# Altium schematic symbol library CPU_STM_080816.SchLib: 227 symbols (part 1 of 5)
Pins are listed as number, name and electrical type; pins without a type are passive.

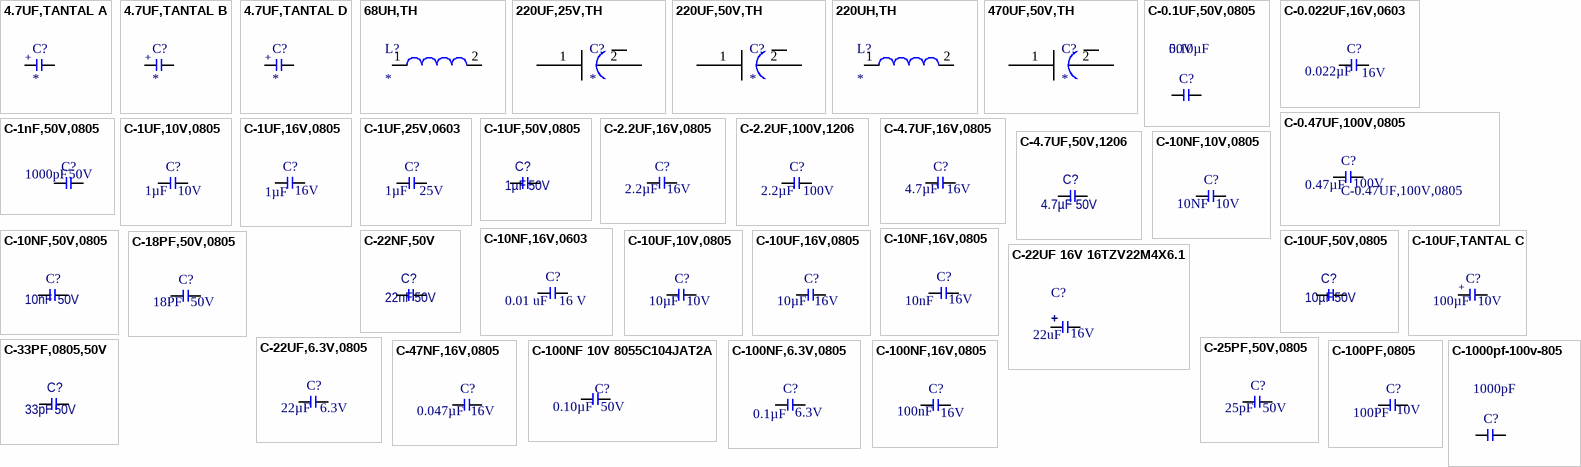
[diagram p0: symbols 4.7UF,TANTAL A to C-1000pf-100v-805]

## 4.7UF,TANTAL A
designator C?
footprint Case_A
pins: 1, 2
text: +

## 4.7UF,TANTAL B
designator C?
footprint Case_B
pins: 1, 2
text: +

## 4.7UF,TANTAL D
designator C?
footprint Case_D
pins: 1, 2
text: +

## 68UH,TH
designator L?
footprint TH
pins: 1, 2

## 220UF,25V,TH
designator C?
Manufacturer: Panasonic; Manufacturer Part Number: EEU-FC1E221B; Capacitance: 220 uF; Tolerance: 20 %; Type: Radial Lead Type; Voltage Rating DC: 25 V; ESR: 117 mOhms; Case Diameter: 8 mm; Case Length: 11 mm; Load Life: 2000 h; Ripple Current: 555 mA; Supplier 1: Mouser; RoHS: RoHS Compliant; Category: Aluminium Electrolytic Capacitors - Leaded; Stock 1: 1648; Pricing 1: 1=0.471, 10=0.231, 100=0.149, 1000=0.126, 2000=0.112, 10000=0.102, 25000=0.099, 50000=0.097 (USD); Dimensions: 8 mm Dia. x 11 mm L; Packaging: Ammo Pack; Product: High Temp Electrolytic Capacitors; Series: FC; Termination Style: Radial; Brand: Panasonic; Lead Spacing: 5 mm; Maximum Operating Temperature: + 105 C; Standard Pack Qty: 1000; RoHS - Mouser: Y; Minimum Order Quantity: 1; Reeling: False; ComponentLink1URL: http://www.mouser.com/ds/2/315/ABA0000CE22-68457.pdf; ComponentLink1Description: http://www.mouser.com/ds/2/315/ABA0000CE22-68457.pdf; Supplier Part Number 1: 667-EEU-FC1E221B
footprint TH
pins: 1, 2

## 220UF,50V,TH
designator C?
footprint TH
pins: 1, 2

## 220UH,TH
designator L?
footprint TH
pins: 1, 2

## 470UF,50V,TH
designator C?
footprint TH
pins: 1, 2

## C-0.1UF,50V,0805
designator C?, comment Voltage - Rated: 50V  Capacitance: 0.10µF  (hidden comment: C0805C104M5RACTU)
CAP CER 0.1UF 50V X7R 0805; Manufacturer: Kemet; Tolerance: ±20%; Supplier 1: Digi-Key; Manufacturer Part Number: C0805C104M5RACTU; RoHS: RoHS Compliant; Category: Capacitors; Stock 1: 375867; Pricing 1: 1=0.1, 10=0.05, 50=0.0274, 100=0.0231, 250=0.01892, 500=0.01618, 1000=0.0126 (USD); Packaging: Cut Tape (CT); Temperature Coefficient: X7R; Mounting Type: Surface Mount, MLCC; Operating Temperature: -55°C ~ 125°C; Applications: General Purpose; Ratings: -; Package / Case: 0805 (2012 Metric); Size / Dimension: 0.079" L x 0.049" W (2.00mm x 1.25mm); Height - Seated (Max): -; Thickness (Max): 0.035" (0.88mm); Lead Spacing: -; Features: Low ESL; Lead Style: -; ComponentLink1URL: http://www.kemet.com/docfinder?Partnumber=C0805C104M5RACTU; ComponentLink1Description: http://www.kemet.com/docfinder?Partnumber=C0805C104M5RACTU; Supplier Part Number 1: 399-1169-1-ND
footprint C0805
pins: 1, 2

## C-0.022UF,16V,0603
designator C?, comment Capacitance: 0.022µF  Voltage - Rated: 16V  (hidden comment: 0.022UF,16V,0603)
CAP CER 0.022UF 16V X7R 0603; Manufacturer: Murata Electronics North America; Manufacturer Part Number: GRM188R71C223KA01D; Tolerance: ±10%; Supplier 1: Digi-Key; RoHS: RoHS Compliant; Category: Capacitors; Stock 1: 96403; Pricing 1: 1=0.1, 10=0.046, 50=0.0248, 100=0.0209, 250=0.01712, 500=0.01464, 1000=0.0114 (USD); Temperature Coefficient: X7R; Mounting Type: Surface Mount, MLCC; Operating Temperature: -55°C ~ 125°C; Applications: General Purpose; Ratings: -; Package / Case: 0603 (1608 Metric); Size / Dimension: 0.063" L x 0.031" W (1.60mm x 0.80mm); Height - Seated (Max): -; Thickness (Max): 0.035" (0.90mm); Lead Spacing: -; Features: -; Lead Style: -; ComponentLink1URL: http://www.murata.com/~/media/webrenewal/support/library/catalog/products/capacitor/mlcc/c02e.pdf; ComponentLink1Description: http://www.murata.com/~/media/webrenewal/support/library/catalog/products/capacitor/mlcc/c02e.pdf; Supplier Part Number 1: 490-1527-1-ND; Packaging: Cut Tape (CT)
footprint C0603
pins: 1, 2

## C-0.47UF,100V,0805
designator C?  Capacitance: 0.47µF  Voltage - Rated: 100V
Multilayer Ceramic Capacitors MLCC - SMD/SMT 0805 0.47uF 100volts X7R 10%; Manufacturer: Murata Electronics North America; Manufacturer Part Number: GRM21BR72A474KA73L; Supplier 1: Digi-Key; RoHS: RoHS Compliant; Category: Capacitors; Stock 1: 78887; Pricing 1: 1=0.58, 10=0.553, 50=0.33, 100=0.2681, 250=0.22276, 500=0.20212, 1000=0.18563 (USD); Packaging: Cut Tape (CT); Tolerance: ±10%; Temperature Coefficient: X7R; Mounting Type: Surface Mount, MLCC; Operating Temperature: -55°C ~ 125°C; Applications: General Purpose; Ratings: -; Package / Case: 0805 (2012 Metric); Size / Dimension: 0.079" L x 0.049" W (2.00mm x 1.25mm); Height - Seated (Max): -; Thickness (Max): 0.053" (1.35mm); Lead Spacing: -; Features: -; Lead Style: -; ComponentLink1URL: http://www.murata.com/~/media/webrenewal/support/library/catalog/products/capacitor/mlcc/c02e.pdf; ComponentLink1Description: http://www.murata.com/~/media/webrenewal/support/library/catalog/products/capacitor/mlcc/c02e.pdf; Supplier Part Number 1: 490-3326-1-ND
footprint C0805
pins: 1, 2

## C-1nF,50V,0805
designator C?, comment Voltage - Rated: 50V  Capacitance: 1000pF  (hidden comment: C0805C102K5RAC7411)
CAP CER 1000PF 50V X7R 0805; Manufacturer: Kemet; Tolerance: ±10%; Supplier 1: Digi-Key; Manufacturer Part Number: C0805C102K5RAC7411; RoHS: RoHS Compliant; Category: Capacitors; Stock 1: 60000; Pricing 1: 15000=0.0062, 30000=0.00589, 75000=0.00527, 105000=0.00426 (USD); Packaging: Tape & Reel (TR); Temperature Coefficient: X7R; Mounting Type: Surface Mount, MLCC; Operating Temperature: -55°C ~ 125°C; Applications: General Purpose; Ratings: -; Package / Case: 0805 (2012 Metric); Size / Dimension: 0.079" L x 0.049" W (2.00mm x 1.25mm); Height - Seated (Max): -; Thickness (Max): 0.035" (0.88mm); Lead Spacing: -; Features: Low ESL; Lead Style: -; ComponentLink1URL: http://www.kemet.com/docfinder?Partnumber=C0805C102K5RAC7411; ComponentLink1Description: http://www.kemet.com/docfinder?Partnumber=C0805C102K5RAC7411; Supplier Part Number 1: 399-7361-2-ND
footprint C0805
pins: 1, 2

## C-1UF,10V,0805
designator C?, comment Voltage - Rated: 10V  (hidden comment: 1µF)
AVX - 0805ZC105JAT2A - CAP, MLCC, X7R, 1UF, 10V, 0805; Manufacturer: AVX Corporation; Tolerance: ±5%; Supplier 1: Digi-Key; Manufacturer Part Number: 0805ZC105JAT2A; RoHS: RoHS Compliant; Category: Capacitors; Stock 1: 23098; Pricing 1: 1=0.68, 10=0.501, 25=0.4292, 50=0.4004, 100=0.3432, 250=0.3146, 500=0.2717, 1000=0.2288 (USD); Packaging: Cut Tape (CT); Temperature Coefficient: X7R; Mounting Type: Surface Mount, MLCC; Operating Temperature: -55°C ~ 125°C; Applications: General Purpose; Ratings: -; Package / Case: 0805 (2012 Metric); Size / Dimension: 0.079" L x 0.049" W (2.01mm x 1.25mm); Height - Seated (Max): -; Thickness (Max): 0.055" (1.40mm); Lead Spacing: -; Features: -; Lead Style: -; ComponentLink1URL: http://datasheets.avx.com/X7RDielectric.pdf; ComponentLink1Description: http://datasheets.avx.com/X7RDielectric.pdf; Supplier Part Number 1: 478-6224-1-ND; Capacitance: 1µF
footprint C0805
pins: 1, 2

## C-1UF,16V,0805
designator C?, comment Voltage - Rated: 16V  (hidden comment: 1µF)
AVX - 0805YC105KAT2A - CAP, MLCC, X7R, 1UF, 16V, 0805; Manufacturer: AVX Corporation; Tolerance: ±10%; Supplier 1: Digi-Key; Manufacturer Part Number: 0805YC105KAT2A; RoHS: RoHS Compliant; Category: Capacitors; Stock 1: 76930; Pricing 1: 1=0.19, 10=0.132, 25=0.0964, 50=0.075, 100=0.0622, 250=0.05148, 500=0.04362, 1000=0.03611 (USD); Packaging: Cut Tape (CT); Temperature Coefficient: X7R; Mounting Type: Surface Mount, MLCC; Operating Temperature: -55°C ~ 125°C; Applications: General Purpose; Ratings: -; Package / Case: 0805 (2012 Metric); Size / Dimension: 0.079" L x 0.049" W (2.01mm x 1.25mm); Height - Seated (Max): -; Thickness (Max): 0.055" (1.40mm); Lead Spacing: -; Features: -; Lead Style: -; ComponentLink1URL: http://datasheets.avx.com/X7RDielectric.pdf; ComponentLink1Description: http://datasheets.avx.com/X7RDielectric.pdf; Supplier Part Number 1: 478-5034-1-ND; Capacitance: 1µF
footprint C0805
pins: 1, 2

## C-1UF,25V,0603
designator C?  Capacitance: 1µF  Voltage - Rated: 25V  (hidden comment: C-1UF,25V,0603)
Multilayer Ceramic Capacitors MLCC - SMD/SMT 0603 1.0uF 25volts X7R 10%; Manufacturer: Murata Electronics North America; Manufacturer Part Number: GRM188R71E105KA12D; Supplier 1: Digi-Key; RoHS: RoHS Compliant; Category: Capacitors; Stock 1: 274086; Pricing 1: 1=0.24, 10=0.165, 50=0.1, 100=0.084, 250=0.068, 500=0.06, 1000=0.051 (USD); Packaging: Cut Tape (CT); Tolerance: ±10%; Temperature Coefficient: X7R; Mounting Type: Surface Mount, MLCC; Operating Temperature: -55°C ~ 125°C; Applications: General Purpose; Ratings: -; Package / Case: 0603 (1608 Metric); Size / Dimension: 0.063" L x 0.031" W (1.60mm x 0.80mm); Height - Seated (Max): -; Thickness (Max): 0.035" (0.90mm); Lead Spacing: -; Features: -; Lead Style: -; ComponentLink1URL: http://www.murata.com/~/media/webrenewal/support/library/catalog/products/capacitor/mlcc/c02e.pdf; ComponentLink1Description: http://www.murata.com/~/media/webrenewal/support/library/catalog/products/capacitor/mlcc/c02e.pdf; Supplier Part Number 1: 490-5307-1-ND
footprint 0603 (0603_CC)
pins: 1, 2

## C-1UF,50V,0805
designator C?, comment Capacitance: 1µF  Voltage - Rated: 50V  (hidden comment: 1UF 50V X7R)
CAP CER 1UF 50V X7R 0805; Manufacturer: Samsung Electro-Mechanics America, Inc.; Manufacturer Part Number: CL21B105KBFNNNE; Tolerance: ±10%; Supplier 1: Digi-Key; RoHS: RoHS Compliant; Category: Capacitors; Stock 1: 162738; Pricing 1: 1=0.21, 10=0.143, 25=0.104, 50=0.0866, 100=0.0727, 500=0.05194, 1000=0.04414 (USD); Packaging: Digi-Reel®; Temperature Coefficient: X7R; Mounting Type: Surface Mount, MLCC; Operating Temperature: -55°C ~ 125°C; Applications: General Purpose; Ratings: -; Package / Case: 0805 (2012 Metric); Size / Dimension: 0.079" L x 0.049" W (2.00mm x 1.25mm); Height - Seated (Max): -; Thickness (Max): 0.053" (1.35mm); Lead Spacing: -; Features: -; Lead Style: -; ComponentLink1URL: http://www.samsungsem.com/kr/support/product-search/mlcc/CL21B105KBFNNNE.jsp; ComponentLink1Description: http://www.samsungsem.com/kr/support/product-search/mlcc/CL21B105KBFNNNE.jsp; Supplier Part Number 1: 1276-1029-6-ND
footprint C0805
pins: 1, 2

## C-2.2UF,16V,0805
designator C?, comment Voltage - Rated: 16V  (hidden comment: 2.2µF)
KEMET - C0805C225K4RACTU - CAP, MLCC, X7R, 2.2UF, 16V, 0805; Tolerance: ±10%; Supplier 1: Digi-Key; Manufacturer: Kemet; Manufacturer Part Number: C0805C225K4RACTU; RoHS: RoHS Compliant; Category: Capacitors; Stock 1: 60102; Pricing 1: 1=0.36, 10=0.315, 50=0.1912, 100=0.1575, 250=0.126, 500=0.11476, 1000=0.1035 (USD); Packaging: Cut Tape (CT); Temperature Coefficient: X7R; Mounting Type: Surface Mount, MLCC; Operating Temperature: -55°C ~ 125°C; Applications: General Purpose; Ratings: -; Package / Case: 0805 (2012 Metric); Size / Dimension: 0.079" L x 0.049" W (2.00mm x 1.25mm); Height - Seated (Max): -; Thickness (Max): 0.055" (1.40mm); Lead Spacing: -; Features: Low ESL; Lead Style: -; ComponentLink1URL: http://www.kemet.com/docfinder?Partnumber=C0805C225K4RACTU; ComponentLink1Description: http://www.kemet.com/docfinder?Partnumber=C0805C225K4RACTU; Supplier Part Number 1: 399-3523-1-ND; Capacitance: 2.2µF
footprint C0805
pins: 1, 2

## C-2.2UF,100V,1206
designator C?, comment Voltage - Rated: 100V  (hidden comment: 2.2µF)
Multilayer Ceramic Capacitors MLCC - SMD/SMT 1210 2.2uF 100volts X7R 10%; Manufacturer: Murata Electronics North America; Manufacturer Part Number: GRM32ER72A225KA35L; Supplier 1: Digi-Key; RoHS: RoHS Compliant; Category: Capacitors; Stock 1: 228411; Pricing 1: 1=0.7, 10=0.67, 50=0.4, 100=0.325, 250=0.27, 500=0.245 (USD); Packaging: Cut Tape (CT); Tolerance: ±10%; Temperature Coefficient: X7R; Mounting Type: Surface Mount, MLCC; Operating Temperature: -55°C ~ 125°C; Applications: General Purpose; Ratings: -; Package / Case: 1210 (3225 Metric); Size / Dimension: 0.126" L x 0.098" W (3.20mm x 2.50mm); Height - Seated (Max): -; Thickness (Max): 0.106" (2.70mm); Lead Spacing: -; Features: -; Lead Style: -; ComponentLink1URL: http://www.murata.com/~/media/webrenewal/support/library/catalog/products/capacitor/mlcc/c02e.pdf; ComponentLink1Description: http://www.murata.com/~/media/webrenewal/support/library/catalog/products/capacitor/mlcc/c02e.pdf; Supplier Part Number 1: 490-3385-1-ND; Capacitance: 2.2µF
footprint C1206
pins: 1, 2

## C-4.7UF,16V,0805
designator C?, comment Voltage - Rated: 16V  (hidden comment: 4.7µF)
AVX - 0805YC475KAT2A - CAP, MLCC, X7R, 4.7UF, 16V, 0805; Manufacturer: AVX Corporation; Tolerance: ±10%; Supplier 1: Digi-Key; Manufacturer Part Number: 0805YC475KAT2A; RoHS: RoHS Compliant; Category: Capacitors; Stock 1: 16611; Pricing 1: 1=0.78, 10=0.578, 25=0.4952, 50=0.462, 100=0.396, 250=0.363, 500=0.3135, 1000=0.264 (USD); Packaging: Cut Tape (CT); Temperature Coefficient: X7R; Mounting Type: Surface Mount, MLCC; Operating Temperature: -55°C ~ 125°C; Applications: General Purpose; Ratings: -; Package / Case: 0805 (2012 Metric); Size / Dimension: 0.079" L x 0.049" W (2.01mm x 1.25mm); Height - Seated (Max): -; Thickness (Max): 0.060" (1.52mm); Lead Spacing: -; Features: -; Lead Style: -; ComponentLink1URL: http://datasheets.avx.com/X7RDielectric.pdf; ComponentLink1Description: http://datasheets.avx.com/X7RDielectric.pdf; Supplier Part Number 1: 478-5722-1-ND; Capacitance: 4.7µF
footprint C0805
pins: 1, 2

## C-4.7UF,50V,1206
designator C?, comment Capacitance: 4.7µF  Voltage - Rated: 50V  (hidden comment: 4.7UF 50V X7R)
CAP CER 4.7UF 50V X7R 1206; Manufacturer: Samsung Electro-Mechanics America, Inc.; Manufacturer Part Number: CL31B475KBHNNNE; Tolerance: ±10%; Supplier 1: Digi-Key; RoHS: RoHS Compliant; Category: Capacitors; Stock 1: 128633; Pricing 1: 1=0.34, 10=0.28, 25=0.1928, 50=0.1576, 100=0.1401, 500=0.0928, 1000=0.0823 (USD); Packaging: Digi-Reel®; Temperature Coefficient: X7R; Mounting Type: Surface Mount, MLCC; Operating Temperature: -55°C ~ 125°C; Applications: General Purpose; Ratings: -; Package / Case: 1206 (3216 Metric); Size / Dimension: 0.126" L x 0.063" W (3.20mm x 1.60mm); Height - Seated (Max): -; Thickness (Max): 0.071" (1.80mm); Lead Spacing: -; Features: -; Lead Style: -; ComponentLink1URL: http://www.samsungsem.com/kr/support/product-search/mlcc/CL31B475KBHNNNE.jsp; ComponentLink1Description: http://www.samsungsem.com/kr/support/product-search/mlcc/CL31B475KBHNNNE.jsp; Supplier Part Number 1: 1276-2789-6-ND
footprint C1206
pins: 1, 2

## C-10NF,10V,0805
designator C?, comment voltage_rating_dc: 10V  (hidden comment: 10NF)
MULTICOMP - MCSH21B103K100CT - CAP, MLCC, X7R, 10NF, 10V, 0805; capacitance_tolerance: ±10%; Manufacturer: MULTICOMP; Manufacturer Part Number: MCSH21B103K100CT; RoHS: YES; ComponentLink1URL: http://www.farnell.com/datasheets/1825494.pdf; ComponentLink1Description: http://www.farnell.com/datasheets/1825494.pdf; Supplier 1: Octopart; Stock 1: 5085; Pricing 1: 100=0.02900, 500=0.01700, 1000=0.01200 (SGD); reach_svhc_compliance: No SVHC; rohs_status: Compliant; packaging: Cut Tape (CT); dielectric_characteristic: X7R; Octopart Url: http://octopart.com/mcsh21b103k100ct-multicomp-46923996; Seller Landing  Url: https://octopart-clicks.com/click/track?country=TR&ak=8157f166&sig=0832e74&sid=11744&ppid=46923996&vpid=132475739&ct=offers; OctopartID: 0696cd50232cd951; ComponentLink2URL: http://datasheet.octopart.com/MCSH21B103K100CT-Multicomp-datasheet-26590457.pdf; ComponentLink2Description: http://datasheet.octopart.com/MCSH21B103K100CT-Multicomp-datasheet-26590457.pdf; ComponentLink3URL: http://datasheet.octopart.com/MCSH21B103K100CT-Multicomp-datasheet-12469387.pdf; ComponentLink3Description: http://datasheet.octopart.com/MCSH21B103K100CT-Multicomp-datasheet-12469387.pdf; ComponentLink4URL: http://datasheet.octopart.com/MCSH21B103K100CT-Multicomp-datasheet-10025619.pdf; ComponentLink4Description: http://datasheet.octopart.com/MCSH21B103K100CT-Multicomp-datasheet-10025619.pdf; Supplier Part Number 1: element14 APAC - 1856414; capacitance: 10NF
footprint C0805
pins: 1, 2

## C-10NF,16V,0603
designator C?  Capacitance: 0.01 uF  Voltage Rating DC: 16 V  (hidden comment: C-10NF,16V,0603)
Multilayer Ceramic Capacitors MLCC - SMD/SMT 0603 0.01uF 16volts X7R 10%; Manufacturer: Murata Electronics; Manufacturer Part Number: GRM188R71C103KA01D; Type: General Purpose MLCC; Case Height: 0.8 mm; Case Length: 1.6 mm; Temperature Coefficient / Code: +/- 15 %; RoHS: RoHS Compliant; Category: Multilayer Ceramic Capacitors MLCC - SMD/SMT; Operating Temperature Range: - 55 C to + 125 C; Package / Case: 0603 (1608 metric); Packaging: Reel; Product: General Type MLCCs; Series: GRM; Termination Style: SMD/SMT; Tolerance: 10 %; Brand: Murata Electronics; Case Code - in: 0603; Case Code - mm: 1608; Case Width: 0.8 mm; Dielectric: X7R; Maximum Operating Temperature: + 125 C; Minimum Operating Temperature: - 55 C; Product Category: Low & Medium Capacitance SMD Ceramic Chip Capacitors; Standard Pack Qty: 4000; RoHS - Mouser: Y; Minimum Order Quantity: 1; Reeling: True; ComponentLink1URL: http://www.mouser.com/ds/2/281/c02e-2905.pdf; ComponentLink1Description: http://www.mouser.com/ds/2/281/c02e-2905.pdf; Supplier 1: Digi-Key; Stock 1: 24947; Pricing 1: 1=0.1, 10=0.049, 50=0.0266, 100=0.0226, 250=0.01844, 500=0.01578, 1000=0.0123 (USD); Voltage - Rated: 16V; Temperature Coefficient: X7R; Mounting Type: Surface Mount, MLCC; Operating Temperature: -55°C ~ 125°C; Applications: General Purpose; Ratings: -; Size / Dimension: 0.063" L x 0.031" W (1.60mm x 0.80mm); Height - Seated (Max): -; Thickness (Max): 0.035" (0.90mm); Lead Spacing: -; Features: -; Lead Style: -; ComponentLink2URL: http://www.murata.com/~/media/webrenewal/support/library/catalog/products/capacitor/mlcc/c02e.pdf; ComponentLink2Description: http://www.murata.com/~/media/webrenewal/support/library/catalog/products/capacitor/mlcc/c02e.pdf; Supplier Part Number 1: 490-1525-1-ND
footprint 0603 (0603_CC)
pins: 1, 2

## C-10NF,16V,0805
designator C?, comment Voltage - Rated: 16V  (hidden comment: 10nF)
CAP CER 10000PF 16V NP0 0805; Manufacturer: AVX Corporation; Manufacturer Part Number: 0805YA103JAT2A; Tolerance: ±5%; Temperature Coefficient: C0G, NP0; Supplier 1: Digi-Key; RoHS: RoHS Compliant; Category: Capacitors; Stock 1: 28062; Pricing 1: 1=0.29, 10=0.204, 25=0.1668, 50=0.1424, 100=0.1221, 250=0.10176, 500=0.09158, 1000=0.07733 (USD); Packaging: Cut Tape (CT); Mounting Type: Surface Mount, MLCC; Operating Temperature: -55°C ~ 125°C; Applications: General Purpose; Ratings: -; Package / Case: 0805 (2012 Metric); Size / Dimension: 0.079" L x 0.049" W (2.01mm x 1.25mm); Height - Seated (Max): -; Thickness (Max): 0.037" (0.94mm); Lead Spacing: -; Features: -; Lead Style: -; ComponentLink1URL: http://datasheets.avx.com/C0GNP0-Dielectric.pdf; ComponentLink1Description: http://datasheets.avx.com/C0GNP0-Dielectric.pdf; Supplier Part Number 1: 478-1334-1-ND; Capacitance: 10nF
footprint C0805
pins: 1, 2

## C-10NF,50V,0805
designator C?, comment Voltage - Rated: 50V  (hidden comment: 10nF)
AVX - 08055A102GAT2A - CAPACITOR CERAMIC 1000PF 50V, C0G, 2%, 0805; Temperature Coefficient: C0G, NP0; Manufacturer: AVX; Manufacturer Part Number: 08055A102GAT2A; RoHS: YES; ComponentLink1URL: http://www.farnell.com/datasheets/84496.pdf; ComponentLink1Description: http://www.farnell.com/datasheets/84496.pdf; Supplier 1: Digi-Key; Category: Capacitors; Stock 1: 11319; Pricing 1: 1=0.46, 10=0.322, 25=0.264, 50=0.2252, 100=0.1931, 250=0.16088, 500=0.14478, 1000=0.12227 (USD); Packaging: Cut Tape (CT); Tolerance: ±2%; Mounting Type: Surface Mount, MLCC; Operating Temperature: -55°C ~ 125°C; Applications: General Purpose; Ratings: -; Package / Case: 0805 (2012 Metric); Size / Dimension: 0.079" L x 0.049" W (2.01mm x 1.25mm); Height - Seated (Max): -; Thickness (Max): 0.037" (0.94mm); Lead Spacing: -; Features: -; Lead Style: -; ComponentLink2URL: http://datasheets.avx.com/C0GNP0-Dielectric.pdf; ComponentLink2Description: http://datasheets.avx.com/C0GNP0-Dielectric.pdf; Supplier Part Number 1: 478-3760-1-ND; Capacitance: 10nF
footprint C0805
pins: 1, 2

## C-10UF,10V,0805
designator C?  Capacitance: 10µF  Voltage - Rated: 10V  (hidden comment: C-10UF,10V,0805)
CAP CER 10UF 10V X7R 0805; Manufacturer: Murata Electronics North America; Manufacturer Part Number: GRM21BR71A106KA73L; Tolerance: ±10%; Supplier 1: Digi-Key; RoHS: RoHS Compliant; Category: Capacitors; Stock 1: 48000; Pricing 1: 3000=0.03388, 6000=0.0308, 9000=0.02926, 15000=0.02772, 30000=0.02618, 75000=0.02464, 150000=0.02079 (USD); Packaging: Tape & Reel (TR); Temperature Coefficient: X7R; Mounting Type: Surface Mount, MLCC; Operating Temperature: -55°C ~ 125°C; Applications: General Purpose; Ratings: -; Package / Case: 0805 (2012 Metric); Size / Dimension: 0.079" L x 0.049" W (2.00mm x 1.25mm); Height - Seated (Max): -; Thickness (Max): 0.055" (1.40mm); Lead Spacing: -; Features: Derating Recommended; Lead Style: -; ComponentLink1URL: http://www.murata.com/~/media/webrenewal/support/library/catalog/products/capacitor/mlcc/c02e.pdf; ComponentLink1Description: http://www.murata.com/~/media/webrenewal/support/library/catalog/products/capacitor/mlcc/c02e.pdf; Supplier Part Number 1: 490-10516-2-ND
footprint C0805
pins: 1, 2

## C-10UF,16V,0805
designator C?, comment Voltage - Rated: 16V  (hidden comment: 10µF)
AVX - 0805YD106KAT2A - CAP, MLCC, X5R, 10UF, 16V, 0805; Manufacturer: AVX Corporation; Tolerance: ±10%; Supplier 1: Digi-Key; Manufacturer Part Number: 0805YD106KAT2A; RoHS: RoHS Compliant; Category: Capacitors; Stock 1: 293738; Pricing 1: 1=0.18, 10=0.124, 25=0.0908, 50=0.0742, 100=0.0627, 250=0.05116, 500=0.0429, 1000=0.03795 (USD); Packaging: Digi-Reel®; Temperature Coefficient: X5R; Mounting Type: Surface Mount, MLCC; Operating Temperature: -55°C ~ 85°C; Applications: General Purpose; Ratings: -; Package / Case: 0805 (2012 Metric); Size / Dimension: 0.079" L x 0.049" W (2.01mm x 1.25mm); Height - Seated (Max): -; Thickness (Max): 0.055" (1.40mm); Lead Spacing: -; Features: -; Lead Style: -; ComponentLink1URL: http://datasheets.avx.com/cx5r.pdf; ComponentLink1Description: http://datasheets.avx.com/cx5r.pdf; Supplier Part Number 1: 478-5165-6-ND; Capacitance: 10µF
footprint C0805
pins: 1, 2

## C-10UF,50V,0805
designator C?, comment Capacitance: 10µF  Voltage - Rated: 50V  (hidden comment: 10UF 50V X5R)
CAP CER 10UF 50V X7R 1206; Manufacturer: Samsung Electro-Mechanics America, Inc.; Manufacturer Part Number: CL31B106KBHNNNE; Tolerance: ±10%; Supplier 1: Digi-Key; RoHS: RoHS Compliant; Category: Capacitors; Stock 1: 0; Pricing 1: 1=0.33, 10=0.29, 50=0.176, 100=0.1449, 500=0.1056, 1000=0.09524 (USD); Packaging: Cut Tape (CT); Temperature Coefficient: X7R; Mounting Type: Surface Mount, MLCC; Operating Temperature: -55°C ~ 125°C; Applications: General Purpose; Ratings: -; Package / Case: 1206 (3216 Metric); Size / Dimension: 0.126" L x 0.063" W (3.20mm x 1.60mm); Height - Seated (Max): -; Thickness (Max): 0.071" (1.80mm); Lead Spacing: -; Features: -; Lead Style: -; ComponentLink1URL: http://media.digikey.com/pdf/Data%20Sheets/Samsung%20PDFs/CL_Series_MLCC_ds.pdf; ComponentLink1Description: http://media.digikey.com/pdf/Data%20Sheets/Samsung%20PDFs/CL_Series_MLCC_ds.pdf; Supplier Part Number 1: 1276-6767-1-ND
footprint C0805
pins: 1, 2

## C-10UF,TANTAL C
designator C?, comment Voltage - Rated: 10V  (hidden comment: 100µF)
CAP TANT 100UF 10V 10% 2413; Manufacturer: Kemet; Manufacturer Part Number: T491C107K010AT; Manufacturer Size Code: C; ESR (Equivalent Series Resistance): 1.2 Ohm; Type: Molded; Lifetime @ Temp.: 2000 Hrs @ 85°C; Supplier 1: Digi-Key; RoHS: RoHS Compliant; Category: Capacitors; Stock 1: 1879; Pricing 1: 1=2.2, 10=1.804, 50=1.584, 100=1.276, 250=1.056 (USD); Packaging: Cut Tape (CT); Tolerance: ±10%; Operating Temperature: -55°C ~ 125°C; Mounting Type: Surface Mount; Package / Case: 2413 (6032 Metric); Size / Dimension: 0.236" L x 0.126" W (6.00mm x 3.20mm); Height - Seated (Max): 0.110" (2.80mm); Lead Spacing: -; Features: General Purpose; ComponentLink1URL: http://www.kemet.com/Lists/ProductCatalog/Attachments/254/KEM_T2005_T491.pdf; ComponentLink1Description: http://www.kemet.com/Lists/ProductCatalog/Attachments/254/KEM_T2005_T491.pdf; Supplier Part Number 1: 399-8338-1-ND; Capacitance: 100µF
footprint Case_C
pins: 1, 2
text: +

## C-18PF,50V,0805
designator C?, comment voltage_rating_dc: 50V  (hidden comment: 18PF)
MULTICOMP - MC0805N180J500CT - CAP, MLCC, C0G/NP0, 18PF, 50V,0805, REEL; capacitance_tolerance: ±5%; pin_count: 2; Supplier 1: Octopart; Manufacturer: Multicomp; Manufacturer Part Number: MC0805N180J500CT; Stock 1: 3187; Pricing 1: 1=0.11400, 10=0.07300, 50=0.04100, 100=0.03200, 250=0.02600, 500=0.02200, 1000=0.01800 (USD); reach_svhc_compliance: No SVHC; rohs_status: Compliant; dielectric_characteristic: C0G/NP0; Octopart Url: http://octopart.com/mc0805n180j500ct-multicomp-10529169; Seller Landing  Url: https://octopart-clicks.com/click/track?country=TR&ak=8157f166&sig=03c9fd1&sid=2402&ppid=10529169&vpid=17760821&ct=offers; OctopartID: 811748bd0de05ed0; ComponentLink1URL: http://datasheet.octopart.com/MC0805N180J500CT-Multicomp-datasheet-16478625.pdf; ComponentLink1Description: http://datasheet.octopart.com/MC0805N180J500CT-Multicomp-datasheet-16478625.pdf; ComponentLink2URL: http://datasheet.octopart.com/MC0805N180J500CT-Multicomp-datasheet-22150886.pdf; ComponentLink2Description: http://datasheet.octopart.com/MC0805N180J500CT-Multicomp-datasheet-22150886.pdf; ComponentLink3URL: http://datasheet.octopart.com/MC0805N180J500CT-Multicomp-datasheet-8445804.pdf; ComponentLink3Description: http://datasheet.octopart.com/MC0805N180J500CT-Multicomp-datasheet-8445804.pdf; ComponentLink4URL: http://datasheet.octopart.com/MC0805N180J500CT-Multicomp-datasheet-34215986.pdf; ComponentLink4Description: http://datasheet.octopart.com/MC0805N180J500CT-Multicomp-datasheet-34215986.pdf; ComponentLink5URL: http://datasheet.octopart.com/MC0805N180J500CT-Multicomp-datasheet-26590290.pdf; ComponentLink5Description: http://datasheet.octopart.com/MC0805N180J500CT-Multicomp-datasheet-26590290.pdf; ComponentLink6URL: http://datasheet.octopart.com/MC0805N180J500CT-Multicomp-datasheet-15500401.pdf; ComponentLink6Description: http://datasheet.octopart.com/MC0805N180J500CT-Multicomp-datasheet-15500401.pdf; ComponentLink7URL: http://datasheet.octopart.com/MC0805N180J500CT-Multicomp-datasheet-10838970.pdf; ComponentLink7Description: http://datasheet.octopart.com/MC0805N180J500CT-Multicomp-datasheet-10838970.pdf; Supplier Part Number 1: Newark - 06R4039; capacitance: 18PF
footprint C0805
pins: 1, 2

## C-22NF,50V
designator C?, comment Capacitance: 22nF  Voltage - Rated: 50V  (hidden comment: 22NF 50V X7R)
CAP CER 0.022UF 50V X7R 0805; Manufacturer: Kemet; Manufacturer Part Number: C0805C223K5RACTU; Tolerance: ±10%; Supplier 1: Digi-Key; RoHS: RoHS Compliant; Category: Capacitors; Stock 1: 126853; Pricing 1: 1=0.1, 10=0.064, 50=0.0344, 100=0.0292, 250=0.02384, 500=0.0204, 1000=0.0159 (USD); Packaging: Cut Tape (CT); Temperature Coefficient: X7R; Mounting Type: Surface Mount, MLCC; Operating Temperature: -55°C ~ 125°C; Applications: General Purpose; Ratings: -; Package / Case: 0805 (2012 Metric); Size / Dimension: 0.079" L x 0.049" W (2.00mm x 1.25mm); Height - Seated (Max): -; Thickness (Max): 0.035" (0.88mm); Lead Spacing: -; Features: Low ESL; Lead Style: -; ComponentLink1URL: http://www.kemet.com/docfinder?Partnumber=C0805C223K5RACTU; ComponentLink1Description: http://www.kemet.com/docfinder?Partnumber=C0805C223K5RACTU; Supplier Part Number 1: 399-1163-1-ND
footprint C0805
pins: 1, 2

## C-22UF 16V 16TZV22M4X6.1
designator C?, comment Capacitance: 22uF  Voltage Rating: 16V  (hidden comment: 22UF 16V)
RUBYCON - 16TZV22M4X6.1 - CAP, ALU ELEC, 22UF, 16V, SMD; Product Range: RUBYCON - TZV Series; AE Capacitor Case: Radial Can - SMD; Ripple Current AC: 90; Lifetime @ Temperature: 2000 hours @ 105; SVHC: No SVHC (16-Dec-2013); Capacitance Tolerance: ± 20%; Impedance: 1.35; Supplier 1: Farnell; Manufacturer: RUBYCON; Manufacturer Part Number: 16TZV22M4X6.1; RoHS: YES; Stock 1: 1492; Pricing 1: 1=0,186, 10=0,17, 50=0,157, 100=0,143, 1000=0,13, 2000=0,104 (EUR); Diameter: 4; ESR: -; Height: 6.1; Packaging: Cut Tape; Operating Temperature Min: -55; Operating Temperature Max: 105; MSL: MSL 1 - Unlimited; Capacitance Tolerance ±: ± 20%; Capacitor Case Style: Radial Can - SMD; ComponentLink1URL: http://www.farnell.com/datasheets/1725814.pdf; ComponentLink1Description: http://www.farnell.com/datasheets/1725814.pdf; Supplier Part Number 1: 2346365RL
footprint CAPAE430X610N
pins: 1, 2
text: +

## C-22UF,6.3V,0805
designator C?, comment Voltage - Rated: 6.3V  (hidden comment: 22µF)
CAP CER 22UF 6.3V 10% X5R 0805; Manufacturer: Samsung Electro-Mechanics America, Inc; Manufacturer Part Number: CL21A226KQQNNNE; Supplier 1: Digi-Key; RoHS: RoHS Compliant; Category: Capacitors; Stock 1: 218754; Pricing 1: 1=0.27, 10=0.182, 25=0.132, 50=0.11, 100=0.0924, 250=0.0748, 500=0.066, 1000=0.0561 (USD); Packaging: Digi-Reel®; Tolerance: ±10%; Temperature Coefficient: X5R; Mounting Type: Surface Mount, MLCC; Operating Temperature: -55°C ~ 85°C; Applications: General Purpose; Ratings: -; Package / Case: 0805 (2012 Metric); Size / Dimension: 0.079" L x 0.049" W (2.00mm x 1.25mm); Height - Seated (Max): -; Thickness (Max): 0.055" (1.40mm); Lead Spacing: -; Features: -; Lead Style: -; ComponentLink1URL: http://www.samsungsem.com/servlet/FileDownload?type=spec&file=CL21A226KQQNNNE.pdf; ComponentLink1Description: http://www.samsungsem.com/servlet/FileDownload?type=spec&file=CL21A226KQQNNNE.pdf; Supplier Part Number 1: 1276-2907-6-ND; Capacitance: 22µF
footprint C0805
pins: 1, 2

## C-25PF,50V,0805
designator C?, comment Voltage - Rated: 50V  (hidden comment: 25pF)
CAP CER 25PF 50V 5% NP0 0805; Manufacturer: Samsung Electro-Mechanics America, Inc; Manufacturer Part Number: CL21C250JBANNNC; Temperature Coefficient: C0G, NP0; Supplier 1: Digi-Key; RoHS: RoHS Compliant; Category: Capacitors; Stock 1: 7744; Pricing 1: 1=0.25, 10=0.173, 25=0.126, 50=0.105, 100=0.0882, 250=0.0714, 500=0.063, 1000=0.05355 (USD); Packaging: Cut Tape (CT); Tolerance: ±5%; Mounting Type: Surface Mount, MLCC; Operating Temperature: -55°C ~ 125°C; Applications: General Purpose; Ratings: -; Package / Case: 0805 (2012 Metric); Size / Dimension: 0.079" L x 0.049" W (2.00mm x 1.25mm); Height - Seated (Max): -; Thickness (Max): 0.030" (0.75mm); Lead Spacing: -; Features: -; Lead Style: -; ComponentLink1URL: http://www.samsungsem.com/servlet/FileDownload?type=spec&file=CL21C250JBANNNC.pdf; ComponentLink1Description: http://www.samsungsem.com/servlet/FileDownload?type=spec&file=CL21C250JBANNNC.pdf; Supplier Part Number 1: 1276-2621-1-ND; Capacitance: 25pF
footprint C0805
pins: 1, 2

## C-33PF,0805,50V
designator C?, comment Capacitance: 33pF  Voltage - Rated: 50V  (hidden comment: CAP CER 33PF 50V)
CAP CER 33PF 50V NP0 0805; Manufacturer: Samsung Electro-Mechanics America, Inc.; Manufacturer Part Number: CL21C330JBANNNC; Tolerance: ±5%; Temperature Coefficient: C0G, NP0; Supplier 1: Digi-Key; RoHS: RoHS Compliant; Category: Capacitors; Stock 1: 80106; Pricing 1: 1=0.1, 10=0.02, 25=0.0144, 50=0.0108, 100=0.0088, 250=0.00732, 500=0.00626, 1000=0.00492 (USD); Packaging: Cut Tape (CT); Part Status: Active; Mounting Type: Surface Mount, MLCC; Operating Temperature: -55°C ~ 125°C; Applications: General Purpose; Ratings: -; Package / Case: 0805 (2012 Metric); Size / Dimension: 0.079" L x 0.049" W (2.00mm x 1.25mm); Height - Seated (Max): -; Thickness (Max): 0.030" (0.75mm); Lead Spacing: -; Features: -; Lead Style: -; ComponentLink1URL: http://www.samsungsem.com/kr/support/product-search/mlcc/__icsFiles/afieldfile/2016/08/18/S_CL21C330JBANNNC.pdf; ComponentLink1Description: http://www.samsungsem.com/kr/support/product-search/mlcc/__icsFiles/afieldfile/2016/08/18/S_CL21C330JBANNNC.pdf; Supplier Part Number 1: 1276-1105-1-ND
footprint C0805
pins: 1, 2

## C-47NF,16V,0805
designator C?, comment Voltage - Rated: 16V  (hidden comment: 0.047µF)
AVX - 0805YC473KAT2A - CAP, MLCC, X7R, 47NF, 16V, 0805; Manufacturer: AVX Corporation; Tolerance: ±10%; Supplier 1: Digi-Key; Manufacturer Part Number: 0805YC473KAT2A; RoHS: RoHS Compliant; Category: Capacitors; Stock 1: 648; Pricing 1: 1=0.18, 10=0.124, 25=0.0908, 50=0.0742, 100=0.0627, 250=0.05116, 500=0.0429, 1000=0.03795 (USD); Packaging: Cut Tape (CT); Temperature Coefficient: X7R; Mounting Type: Surface Mount, MLCC; Operating Temperature: -55°C ~ 125°C; Applications: General Purpose; Ratings: -; Package / Case: 0805 (2012 Metric); Size / Dimension: 0.079" L x 0.049" W (2.01mm x 1.25mm); Height - Seated (Max): -; Thickness (Max): 0.037" (0.94mm); Lead Spacing: -; Features: -; Lead Style: -; ComponentLink1URL: http://datasheets.avx.com/X7RDielectric.pdf; ComponentLink1Description: http://datasheets.avx.com/X7RDielectric.pdf; Supplier Part Number 1: 478-6221-1-ND; Capacitance: 0.047µF
footprint C0805
pins: 1, 2

## C-100NF 10V 8055C104JAT2A
designator C?, comment Capacitance: 0.10µF  Voltage - Rated: 50V  (hidden comment: 100nF 10V)
CAP CER 0.1UF 50V X7R 0805; Manufacturer: AVX Corporation; Manufacturer Part Number: 08055C104JAT2A; Tolerance: ±5%; Supplier 1: Digi-Key; RoHS: RoHS Compliant; Category: Capacitors; Stock 1: 136000; Pricing 1: 4000=0.0115, 8000=0.0105, 12000=0.01, 28000=0.0095, 100000=0.00688 (USD); Packaging: Tape & Reel (TR); Temperature Coefficient: X7R; Mounting Type: Surface Mount, MLCC; Operating Temperature: -55°C ~ 125°C; Applications: General Purpose; Ratings: -; Package / Case: 0805 (2012 Metric); Size / Dimension: 0.079" L x 0.049" W (2.01mm x 1.25mm); Height - Seated (Max): -; Thickness (Max): 0.037" (0.94mm); Lead Spacing: -; Features: -; Lead Style: -; ComponentLink1URL: http://datasheets.avx.com/X7RDielectric.pdf; ComponentLink1Description: http://datasheets.avx.com/X7RDielectric.pdf; Supplier Part Number 1: 478-3352-2-ND
footprint 0805
pins: 1, 2

## C-100NF,6.3V,0805
designator C?, comment Voltage - Rated: 6.3V  (hidden comment: 0.1µF)
CAP CER 0.1UF 6.3V 10% X7R 0805; Manufacturer: Kemet; Manufacturer Part Number: C0805C104K9RACTU; Supplier 1: Digi-Key; RoHS: RoHS Compliant; Category: Capacitors; Stock 1: 19204; Pricing 1: 1=0.12, 10=0.083, 25=0.062, 50=0.0476, 100=0.0392, 250=0.03304, 1000=0.02228 (USD); Packaging: Digi-Reel®; Tolerance: ±10%; Temperature Coefficient: X7R; Mounting Type: Surface Mount, MLCC; Operating Temperature: -55°C ~ 125°C; Applications: General Purpose; Ratings: -; Package / Case: 0805 (2012 Metric); Size / Dimension: 0.079" L x 0.049" W (2.00mm x 1.25mm); Height - Seated (Max): -; Thickness (Max): 0.035" (0.88mm); Lead Spacing: -; Features: -; Lead Style: -; ComponentLink1URL: http://www.kemet.com/docfinder?Partnumber=C0805C104K9RACTU; ComponentLink1Description: http://www.kemet.com/docfinder?Partnumber=C0805C104K9RACTU; Supplier Part Number 1: 399-9155-6-ND; Capacitance: 0.1µF
footprint C0805
pins: 1, 2

## C-100NF,16V,0805
designator C?, comment Voltage - Rated: 16V  (hidden comment: 100nF)
AVX - 0805YA103JAT2A - CAP, MLCC, C0G/NP0, 10NF, 16V, 0805; Tolerance: ±5%; Temperature Coefficient: C0G, NP0; Manufacturer: AVX; Manufacturer Part Number: 0805YA103JAT2A; RoHS: YES; ComponentLink1URL: http://www.avx.com/docs/Catalogs/ccog.pdf; ComponentLink1Description: http://www.avx.com/docs/Catalogs/ccog.pdf; ComponentLink2URL: http://www.farnell.com/datasheets/1825494.pdf; ComponentLink2Description: http://www.farnell.com/datasheets/1825494.pdf; Supplier 1: Digi-Key; Category: Capacitors; Stock 1: 28062; Pricing 1: 1=0.29, 10=0.204, 25=0.1668, 50=0.1424, 100=0.1221, 250=0.10176, 500=0.09158, 1000=0.07733 (USD); Packaging: Cut Tape (CT); Mounting Type: Surface Mount, MLCC; Operating Temperature: -55°C ~ 125°C; Applications: General Purpose; Ratings: -; Package / Case: 0805 (2012 Metric); Size / Dimension: 0.079" L x 0.049" W (2.01mm x 1.25mm); Height - Seated (Max): -; Thickness (Max): 0.037" (0.94mm); Lead Spacing: -; Features: -; Lead Style: -; ComponentLink3URL: http://datasheets.avx.com/C0GNP0-Dielectric.pdf; ComponentLink3Description: http://datasheets.avx.com/C0GNP0-Dielectric.pdf; Supplier Part Number 1: 478-1334-1-ND; Capacitance: 100nF
footprint C0805
pins: 1, 2

## C-100PF,0805
designator C?, comment Voltage Rating: 10V  (hidden comment: 100PF)
MULTICOMP - MCMT21N101F100CT - CAP, MLCC, C0G/NP0, 100PF, 10V, 0805; Product Range: MULTICOMP - MCCA Series; Capacitance Tolerance: ± 1%; Ceramic Capacitor Case: 0805 [2012 Metric]; Capacitor Terminals: SMD; Temperature Coefficient: ± 30; Supplier 1: Farnell; Manufacturer: MULTICOMP; Manufacturer Part Number: MCMT21N101F100CT; RoHS: YES; Stock 1: 0; Pricing 1: 100=0,0811, 500=0,0612, 1000=0,0452, 4000=0,0253 (EUR); Dielectric Characteristic: C0G / NP0; Operating Temperature Min: -55; Operating Temperature Max: 125; Packaging: Cut Tape; MSL: -; Capacitance Tolerance ±: ± 1%; Capacitor Case Style: 0805 [2012 Metric]; Operating Temperature Range: -55°C to +125; Series: MT; ComponentLink1URL: http://www.farnell.com/datasheets/876497.pdf; ComponentLink1Description: http://www.farnell.com/datasheets/876497.pdf; ComponentLink2URL: http://www.farnell.com/datasheets/1825496.pdf; ComponentLink2Description: http://www.farnell.com/datasheets/1825496.pdf; Supplier Part Number 1: 1856185RL; Capacitance: 100PF
footprint 0805
pins: 1, 2

## C-1000pf-100v-805
designator C?, comment Capacitance: 1000pF  (hidden comment: VJ0805A102JXBBC31)
CAP CER 1000PF 100V NP0 0805; Manufacturer: Vishay Vitramon; Tolerance: ±5%; Temperature Coefficient: C0G, NP0; Supplier 1: Digi-Key; Manufacturer Part Number: VJ0805A102JXBBC31; RoHS: RoHS Compliant; Category: Capacitors; Stock 1: 27000; Pricing 1: 3000=0.062, 6000=0.05735, 9000=0.05425, 15000=0.05146, 30000=0.0496, 75000=0.0465, 150000=0.04108 (USD); Packaging: Tape & Reel (TR); Voltage - Rated: 100V; Mounting Type: Surface Mount, MLCC; Operating Temperature: -55°C ~ 150°C; Applications: Automotive; Ratings: AEC-Q200; Package / Case: 0805 (2012 Metric); Size / Dimension: 0.079" L x 0.049" W (2.00mm x 1.25mm); Height - Seated (Max): -; Thickness (Max): 0.057" (1.45mm); Lead Spacing: -; Features: High Temperature; Lead Style: -; ComponentLink1URL: http://www.vishay.com/docs/45040/vj31vj34automlcc.pdf; ComponentLink1Description: http://www.vishay.com/docs/45040/vj31vj34automlcc.pdf; Supplier Part Number 1: 720-1261-2-ND
footprint C0805
pins: 1, 2

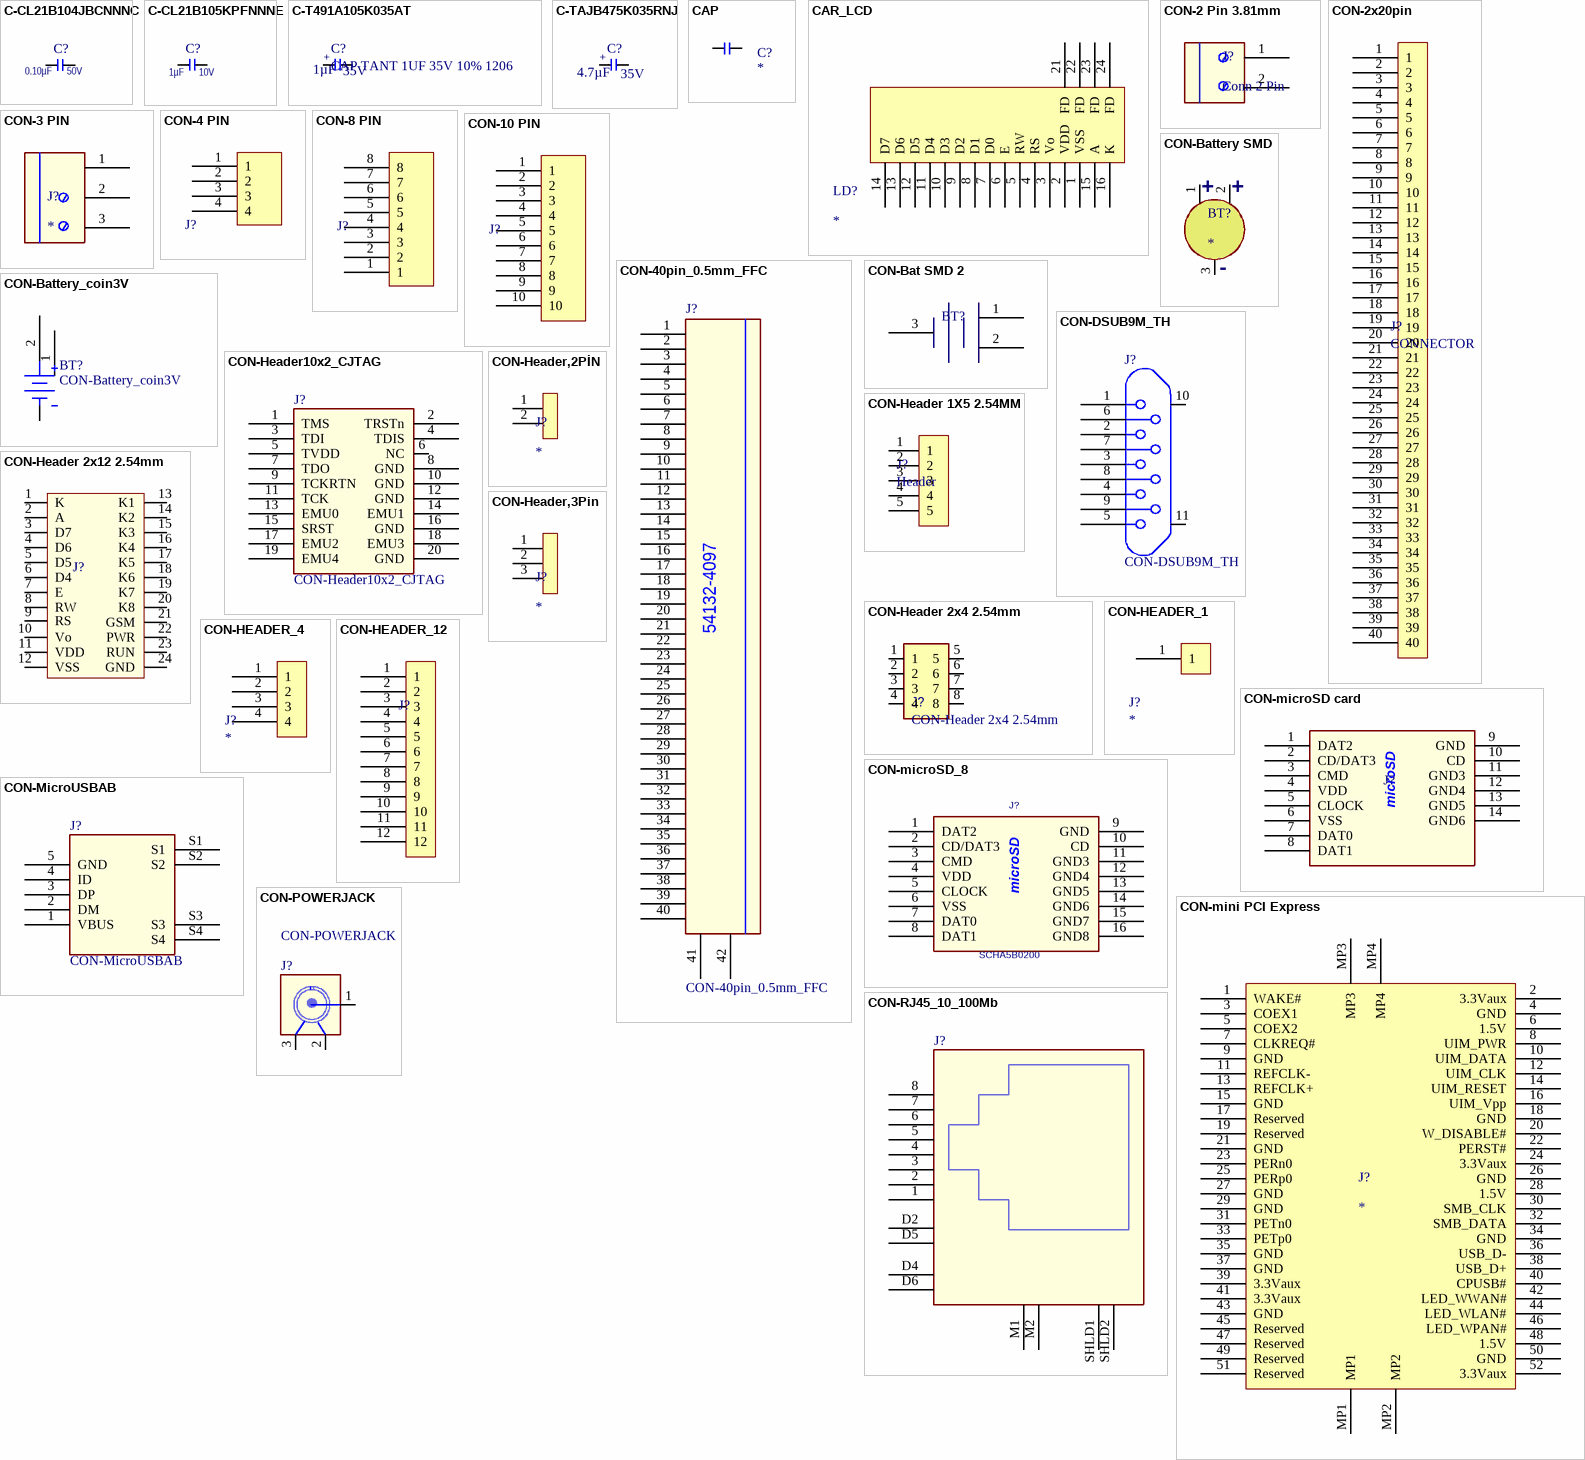
[diagram p1: symbols C-CL21B104JBCNNNC to CON-RJ45_10_100Mb]

## C-CL21B104JBCNNNC
designator C?, comment Voltage - Rated: 50V  (hidden comment: 0.10µF)
CAP CER 0.1UF 50V X7R 0805; Manufacturer: Samsung Electro-Mechanics America, Inc.; Manufacturer Part Number: CL21B104JBCNNNC; Tolerance: ±5%; Supplier 1: Digi-Key; RoHS: RoHS Compliant; Category: Capacitors; Stock 1: 37137; Pricing 1: 1=0.12, 10=0.089, 25=0.0628, 50=0.0482, 100=0.0408, 500=0.02852, 1000=0.02223 (USD); Packaging: Cut Tape (CT); Temperature Coefficient: X7R; Mounting Type: Surface Mount, MLCC; Operating Temperature: -55°C ~ 125°C; Applications: General Purpose; Ratings: -; Package / Case: 0805 (2012 Metric); Size / Dimension: 0.079" L x 0.049" W (2.00mm x 1.25mm); Height - Seated (Max): -; Thickness (Max): 0.037" (0.95mm); Lead Spacing: -; Features: -; Lead Style: -; ComponentLink1URL: http://www.samsungsem.com/kr/support/product-search/mlcc/CL21B104JBCNNNC.jsp; ComponentLink1Description: http://www.samsungsem.com/kr/support/product-search/mlcc/CL21B104JBCNNNC.jsp; Supplier Part Number 1: 1276-1090-1-ND; Capacitance: 0.10µF
footprint C0805
pins: 1, 2

## C-CL21B105KPFNNNE
designator C?, comment Voltage - Rated: 10V  (hidden comment: 1µF)
CAP CER 1UF 10V X7R 0805; Manufacturer: Samsung Electro-Mechanics America, Inc.; Manufacturer Part Number: CL21B105KPFNNNE; Tolerance: ±10%; Supplier 1: Digi-Key; RoHS: RoHS Compliant; Category: Capacitors; Stock 1: 110211; Pricing 1: 1=0.1, 10=0.066, 25=0.0468, 50=0.0358, 100=0.0303, 500=0.02118, 1000=0.0165 (USD); Packaging: Cut Tape (CT); Temperature Coefficient: X7R; Mounting Type: Surface Mount, MLCC; Operating Temperature: -55°C ~ 125°C; Applications: General Purpose; Ratings: -; Package / Case: 0805 (2012 Metric); Size / Dimension: 0.079" L x 0.049" W (2.00mm x 1.25mm); Height - Seated (Max): -; Thickness (Max): 0.053" (1.35mm); Lead Spacing: -; Features: -; Lead Style: -; ComponentLink1URL: http://www.samsungsem.com/kr/support/product-search/mlcc/CL21B105KPFNNNE.jsp; ComponentLink1Description: http://www.samsungsem.com/kr/support/product-search/mlcc/CL21B105KPFNNNE.jsp; Supplier Part Number 1: 1276-1275-1-ND; Capacitance: 1µF
footprint C0805
pins: 1, 2

## C-T491A105K035AT
designator C?, comment CAP TANT 1UF 35V 10% 1206  Capacitance: 1µF  Voltage - Rated: 35V
Manufacturer: Kemet; Manufacturer Part Number: T491A105K035AT; Manufacturer Size Code: A; ESR (Equivalent Series Resistance): 7 Ohm; Type: Molded; Lifetime @ Temp.: 2000 Hrs @ 85°C; Supplier 1: Digi-Key; RoHS: RoHS Compliant; Category: Capacitors; Stock 1: 10565; Pricing 1: 1=0.4, 10=0.354, 50=0.2146, 100=0.1768, 250=0.1414, 500=0.12878, 1000=0.11615 (USD); Packaging: Cut Tape (CT); Tolerance: ±10%; Operating Temperature: -55°C ~ 125°C; Mounting Type: Surface Mount; Package / Case: 1206 (3216 Metric); Size / Dimension: 0.126" L x 0.063" W (3.20mm x 1.60mm); Height - Seated (Max): 0.071" (1.80mm); Lead Spacing: -; Features: General Purpose; ComponentLink1URL: http://www.kemet.com/Lists/ProductCatalog/Attachments/254/KEM_T2005_T491.pdf; ComponentLink1Description: http://www.kemet.com/Lists/ProductCatalog/Attachments/254/KEM_T2005_T491.pdf
footprint Case_A
pins: 1, 2
text: +

## C-TAJB475K035RNJ
designator C?, comment Capacitance: 4.7µF  Voltage - Rated: 35V  (hidden comment: CAP TANT 4.7UF 35V 10% 1210)
Manufacturer: AVX Corporation; Manufacturer Part Number: TAJB475K035RNJ; Manufacturer Size Code: B; ESR (Equivalent Series Resistance): 3.1 Ohm; Type: Molded; Supplier 1: Digi-Key; RoHS: RoHS Compliant; Category: Capacitors; Stock 1: 13970; Pricing 1: 1=0.68, 10=0.501, 25=0.4292, 50=0.4004, 100=0.3432, 250=0.3146, 500=0.2717, 1000=0.2288 (USD); Packaging: Digi-Reel®; Tolerance: ±10%; Operating Temperature: -55°C ~ 125°C; Mounting Type: Surface Mount; Package / Case: 1210 (3528 Metric); Size / Dimension: 0.138" L x 0.110" W (3.50mm x 2.80mm); Height - Seated (Max): 0.083" (2.10mm); Lead Spacing: -; Features: General Purpose; Lifetime @ Temp.: -; ComponentLink1URL: http://datasheets.avx.com/TAJ.pdf; ComponentLink1Description: http://datasheets.avx.com/TAJ.pdf; Supplier Part Number 1: 478-1691-6-ND
footprint Case_B
pins: 1, 2
text: +

## CAP
designator C?
DEVICE: CAP1608; CLASS: DISCRETE; DIS-V: RS; REF DIS-V: 220-7922; MAN: MURATA; PKG: 0603; PUR: SUB; TOL: 10%; DES: Capacitor X7R,GRM39 serial; PN: GRM39-100nF 16V; RAT: 16V
footprint SM-CAP-0402
pins: 1, 2

## CAR_LCD
designator LD?
RC1602E Character 16x2 dots
footprint LCD_CAR
footprint mini_lcd
pins: 1 VSS, 2 VDD, 3 Vo, 4 RS, 5 RW, 6 E, 7 D0, 8 D1, 9 D2, 10 D3, 11 D4, 12 D5, 13 D6, 14 D7, 15 A, 16 K, 21 FD, 22 FD, 23 FD, 24 FD

## CON-2 Pin 3.81mm
designator J?, comment Conn 2 Pin
TERM BLOCK HDR 2POS R/A 3.81MM; Manufacturer: Phoenix Contact; Manufacturer Part Number: 1803277; Number of Positions: 2; Number of Levels: 1; Pitch: 0.150" (3.81mm); Header Orientation: 90°, Right Angle; Current - IEC: 8A; Voltage - IEC: 250V; Voltage - UL: 300V; Supplier 1: Digi-Key; RoHS: RoHS Compliant; Category: Connectors, Interconnects; Stock 1: 4266; Pricing 1: 1=0.75, 10=0.716, 50=0.6844, 100=0.6658, 250=0.6222, 500=0.57242, 1000=0.5185, 2500=0.4941, 5000=0.4636 (USD); Packaging: Bulk; Type: Header, Male Pins, Shrouded (4 Side); Positions Per Level: 2; Plug Wire Entry: -; Termination Style: Solder; Mounting Type: Through Hole; Current - UL: 8A; Wire Gauge or Range - AWG: -; Wire Gauge or Range - mm²: -; Color: Green; Operating Temperature: -; Contact Mating Finish: Tin; Features: -; ComponentLink1URL: http://media.digikey.com/pdf/Data%20Sheets/Phoenix%20Contact%20PDFs/1803277.pdf; ComponentLink1Description: http://media.digikey.com/pdf/Data%20Sheets/Phoenix%20Contact%20PDFs/1803277.pdf; Supplier Part Number 1: 277-1206-ND
footprint Connector 2 Ways Pitch 3,81
pins: 1, 2

## CON-2x20pin
designator J?, comment CONNECTOR
footprint CONN_2X20 2mm
pins: 1, 2, 3, 4, 5, 6, 7, 8, 9, 10, 11, 12, 13, 14, 15, 16, 17, 18, 19, 20, 21, 22, 23, 24, 25, 26, 27, 28, 29, 30, 31, 32, 33, 34, 35, 36, 37, 38, 39, 40

## CON-3 PIN
designator J?
Terminal Block 3 Pin
footprint CONECTOR_PCB_3_90_3.81mm
pins: 1, 2, 3

## CON-4 PIN
designator J?  (value not drawn)
Terminal Block 4 Pin
footprint CONECTOR_PCB_4_180
pins: 1, 2, 3, 4

## CON-8 PIN
designator J?  (value not drawn)
Terminal Block 8 Pin
footprint CONECTOR_PCB_10
footprint CONECTOR_PCB_8_3.81_90
pins: 1, 2, 3, 4, 5, 6, 7, 8

## CON-10 PIN
designator J?  (value not drawn)
Terminal Block 4 Pin
footprint Connector_10_pin
pins: 1, 2, 3, 4, 5, 6, 7, 8, 9, 10

## CON-40pin_0.5mm_FFC
designator J?
PartName: Conn_FFC_0.5mm_40pos; Mfr: Molex; MfrNum: 54132-4097; TIIntPartnumber: 2C0101; Cost100: 1.21; Cost10K: 0.31; DescriptiveText: Connector 0.5mm pitch, 40 Pin, 0.5A/50V, FFC; Vendor: Molex; Supplier 1: Farnell; Supplier Part Number 1: 1757130
footprint CNFPC1X40-0P5MM
pins: 1, 2, 3, 4, 5, 6, 7, 8, 9, 10, 11, 12, 13, 14, 15, 16, 17, 18, 19, 20, 21, 22, 23, 24, 25, 26, 27, 28, 29, 30, 31, 32, 33, 34, 35, 36, 37, 38, 39, 40, 41, 42

## CON-Bat SMD 2
designator BT?, comment 2032  (value not drawn)
HOLDER BATTERY 20MM COIN; Manufacturer: Linx Technologies Inc.; Manufacturer Part Number: BAT-HLD-001-TR; Battery Type, Function: Coin Cell, Retainer; Style: Retainer; Battery Cell Size: Coin, 20.0mm; Number of Cells: 1; Battery Series: 2025, 2032; Supplier 1: Digi-Key; Supplier 2: Digi-Key; RoHS: RoHS Compliant; Category: Battery Products; Stock 2: 0; Pricing 2: 650=0.32625 (USD); Mounting Type: PCB, Surface Mount; Termination Style: SMD (SMT) Tab; Height Above Board: 0.165" (4.20mm); Operating Temperature: -; ComponentLink1URL: https://www.linxtechnologies.com/resources/diagrams/bat-hld-001.pdf; ComponentLink1Description: https://www.linxtechnologies.com/resources/diagrams/bat-hld-001.pdf; Supplier Part Number 1: BAT-HLD-001-ND; Supplier Part Number 2: BAT-HLD-001-TRTR-ND
footprint 2032 SMT Bulk
pins: 1, 2, 3

## CON-Battery SMD
designator BT?
Supplier 1: Farnell; Supplier Part Number 1: 1650693; Battery: *
footprint Bat SMD
pins: 1, 2, 3
text: +; -

## CON-Battery_coin3V
designator BT?
Coin battery 3.1V lithium; PartName: Battery3_1VLithium; Mfr: Seiko; MfrNum: MS920SE-FL27E; TIIntPartnumber: 1P0003; Vendor: Digikey; Cost100: 1.74; Cost10K: 0.98; DescriptiveText: Coin battery 3.1V lithium; Descriptive_Text: Coin battery 3.1V lithium; Supplier 1: Digi-Key; Supplier Part Number 1: 728-1058-ND
footprint BATTERY
pins: 1, 2, 3 Neg

## CON-DSUB9M_TH
designator J?
Connector DB9 Male RA Throughhole; TIIntPartnumber: 2C0098; MfrNum: 182-009-113R531; Mfr: Norcomp; PartName: Conn_DSub9MTH; Cost10K: 0.82; Cost100: 1.20; Vendor: Digikey; DescriptiveText: Connector DB9 Male RA Throughhole; Supplier 1: Digi-Key; Supplier Part Number 1: 182-09ME-ND
footprint norcomp_db9m_th
pins: 1, 2, 3, 4, 5, 6, 7, 8, 9, 10, 11

## CON-Header10x2_CJTAG
designator J?
Dual Line Header 10x2pin Tin; TIIntPartnumber: 2H0039; MfrNum: FTR-110-03-G-D-06; PartName: HEADERCTIJTAG10x2Pin; Cost10K: 0.97; Cost100: 1.20; Vendor: Samtec; DescriptiveText: Dual Line Header 10x2pin Tin; Mfr: Samtec; Descriptive_Text: Dual Line Header 10x2pin Tin
footprint JTAG,0.254
pins: 1 TMS, 2 TRSTn, 3 TDI, 4 TDIS, 5 TVDD, 6 NC, 7 TDO, 8 GND (power), 9 TCKRTN, 10 GND (power), 11 TCK, 12 GND (power), 13 EMU0, 14 EMU1, 15 SRST, 16 GND (power), 17 EMU2, 18 EMU3, 19 EMU4, 20 GND (power)

## CON-Header 1X5 2.54MM
designator J?, comment Header
Header 1X5 2.54
footprint Header 1x5 2.54mm
pins: 1, 2, 3, 4, 5

## CON-Header 2x4 2.54mm
designator J?
Manufacturer: TE Connectivity; Manufacturer Part Number: 5-103672-3; ID: 17370742; Supplier 1: Arrow; RoHS: : Compliant / : Compliant; Stock 1: 2078; Pricing 1: 3024=0.6486 (USD); Package Quantity: 3024; ComponentLink1URL: https://www.arrow.com/en/products/5-103672-3/te-connectivity-ltd/; ComponentLink1Description: https://www.arrow.com/en/products/5-103672-3/te-connectivity-ltd/
footprint Header 2x4 2.54mm-M
footprint Header 2x4 2.54mm-F
pins: 1, 2, 3, 4, 5, 6, 7, 8

## CON-Header 2x12 2.54mm
designator J?
Header 2x12 2.54mm; Manufacturer: Harwin Inc.; Manufacturer Part Number: M20-9981246; Connector Type: Header, Unshrouded, Breakaway; Number of Positions: 24; Number of Positions Loaded: All; Pitch: 0.100" (2.54mm); Supplier 1: Digi-Key; RoHS: RoHS Compliant; Category: Connectors, Interconnects; Stock 1: 1660; Pricing 1: 1=0.68, 10=0.607, 100=0.4998, 500=0.39508, 1000=0.33915, 5000=0.3094, 10000=0.2975 (USD); Packaging: Bulk; Contact Type: Male Pin; Number of Rows: 2; Row Spacing: 0.100" (2.54mm); Contact Mating Length: 0.240" (6.10mm); Mounting Type: Through Hole; Termination: Solder; Fastening Type: -; Features: -; Contact Finish: Tin; Contact Finish Thickness: -; Color: Black; ComponentLink1URL: https://cdn.harwin.com/pdfs/M20-998.pdf; ComponentLink1Description: https://cdn.harwin.com/pdfs/M20-998.pdf; Supplier Part Number 1: 952-1917-ND
footprint Header 2x12 2.54mm
pins: 1 K, 2 A, 3 D7, 4 D6, 5 D5, 6 D4, 7 E, 8 RW, 9 RS, 10 Vo, 11 VDD, 12 VSS, 13 K1, 14 K2, 15 K3, 16 K4, 17 K5, 18 K6, 19 K7, 20 K8, 21 GSM, 22 PWR, 23 RUN, 24 GND

## CON-Header,2PİN
designator J?
footprint HEADER,2PİN
pins: 1, 2

## CON-Header,3Pin
designator J?
footprint HEADER,3PİN
pins: 1, 2, 3

## CON-HEADER_1
designator J?
footprint HEADER_1
pins: 1

## CON-HEADER_4
designator J?
footprint HEADER_4
pins: 1, 2, 3, 4

## CON-HEADER_12
designator J?  (value not drawn)
Terminal Block 12 Pin
footprint HEADER_12
pins: 1, 2, 3, 4, 5, 6, 7, 8, 9, 10, 11, 12